# Altium schematic symbol library 常用器件.SCHLIB: 109 symbols
Pins are listed as number, name and electrical type; pins without a type are passive.

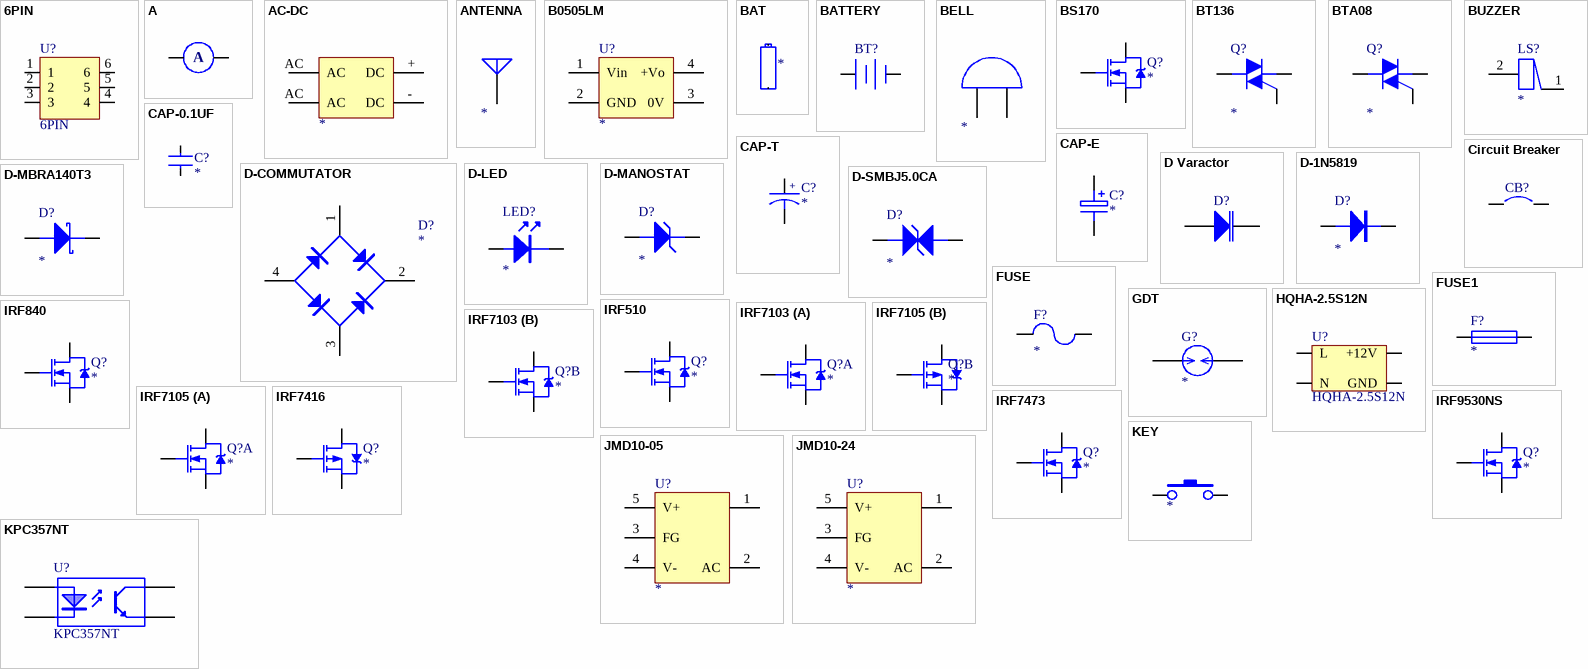
[diagram p0: symbols 6PIN to KPC357NT]

## 6PIN
designator U?
pins: 1, 2, 3, 4, 5, 6

## A
designator A  (value not drawn)
pins: 1, 2

## AC-DC
designator ?
pins: + DC, - DC, AC, AC

## ANTENNA
designator ?
pins: 1 A

## B0505LM
designator U?
DC/DC隔离电源（Mornsun）
footprint B0505LM
pins: 1 Vin, 2 GND, 3 0V, 4 +Vo

## BAT
designator ?
pins: 1, 2, DC hidden to DC

## BATTERY
designator BT?
Multicell Battery; Published: 24-Mar-1999; LatestRevisionDate: 17-Jul-2002; LatestRevisionNote: Re-released for DXP Platform.; PackageReference: BAT-2; Publisher: Altium Limited
footprint BAT-2 (Multicell Battery; 2 Leads)
pins: 1 +, 2 -

## BELL
designator ?
pins: 1 A, 2 B

## BS170
designator Q?
CQ-BS170
footprint TO-92
pins: 1 D, 2 G, 3 S

## BT136
designator Q?
CQ-BT136
footprint TO-220
pins: 1 T1, 2 T2, 3 G

## BTA08
designator Q?
CQ-BTA08
footprint TO-220
pins: 1 A1, 2 A2, 3 G

## BUZZER
designator LS?
footprint 24V-BUZZER
pins: 1 +, 2 -

## CAP-0.1UF
designator C?
SMD-CAP
footprint 0603C
footprint 0805C
footprint 1206C
pins: 1, 2

## CAP-E
designator C?
电解电容
footprint RB.2/.4
footprint RB.2/.5
footprint RB.1/.3
footprint RB.3/.6
pins: 1, 2

## CAP-T
designator C?
钽电容
footprint 6032C
footprint 7343C
footprint 3528C
footprint 3216C
pins: 1, 2
text: +

## Circuit Breaker
designator CB?
Circuit Breaker; Published: 24-Mar-1999; LatestRevisionDate: 17-Jul-2002; LatestRevisionNote: Re-released for DXP Platform.; PackageReference: SPST-2; Publisher: Altium Limited
footprint SPST-2 (Circuit Breaker; 2 Leads)
pins: 1, 2

## D Varactor
designator D?
Variable Capacitance Diode; Note: Pin 2 is not connected and not drawn.; Published: 8-Jun-2000; LatestRevisionDate: 17-Jul-2002; LatestRevisionNote: Re-released for DXP Platform.; DatasheetDocument: Jan-1998; PackageReference: SOT23A; Publisher: Altium Limited; Code_JEDEC: SOT23; ComponentLink1Description: Manufacturer Link; ComponentLink1URL: http://www.zetex.com/
footprint SOT23A (SOT-23; 3 Leads; Body 3.0 x 2.5 mm, inc. leads (LxW max))
simulation model BBY31 (Diode)
signal-integrity model D Varactor
pins: 1 K, 3 A

## D-1N5819
designator D?
Diode
footprint DO-41
footprint DO-35
pins: A 1, K 2

## D-COMMUTATOR
designator D?
commutator整流桥
pins: 1 AC, 2 V+, 3 AC, 4 V-

## D-LED
designator LED?
LED
footprint 0805D
footprint LED-3
footprint LED-5
pins: A 1, K 2

## D-MANOSTAT
designator D?
manostat diode
footprint DO-41
footprint DO-35
pins: A 1, K 2

## D-MBRA140T3
designator D?
MBRA140T3
footprint SMA
pins: A 1, K 2

## D-SMBJ5.0CA
designator D?
TVS
footprint SMB
footprint SMB-B
pins: A 1, K 2

## FUSE
designator F?
CR-1812-050A60V
footprint 1812R
pins: 1, 2

## FUSE1
designator F?
FUSE
pins: 1, 2

## GDT
designator G?
放电器
footprint GDT2
pins: 1, 2

## HQHA-2.5S12N
designator U?
Power
pins: 1 L, 2 N, 3 +12V, 4 GND

## IRF510
designator Q?
CQ-IRF510
footprint TO-220
pins: 1 G, 2 D, 3 S

## IRF840
designator Q?
CQ-IRF840
footprint TO-220
pins: 1 G, 2 D, 3 S

## IRF7103
designator Q?
CQ-IRF7103     SO-8N
footprint IRF7105
part A pins: D1, G1, S1
part B pins: D2, G2, S2

## IRF7105
designator Q?
CQ-IRF7105     SO-8N
footprint IRF7105
part A pins: D1, G1, S1
part B pins: D2, G2, S2

## IRF7416
designator Q?
CQ-IRF7416
footprint IRF7416
pins: D, G, S

## IRF7473
designator Q?
CQ-IRF7473
footprint IRF7473
pins: D, G, S

## IRF9530NS
designator Q?
CQ-IRF9530NS
footprint D2PAK
pins: 1 G, 2 D, 3 S

## JMD10-05
designator U?
CM-JMD10-05
pins: 1 AC, 2 AC, 3 FG, 4 V-, 5 V+

## JMD10-24
designator U?
CM-JMD10-24
pins: 1 AC, 2 AC, 3 FG, 4 V-, 5 V+

## KEY
designator ?
pins: 1, 2

## KPC357NT
designator U?
Published: 24-Mar-1999; LatestRevisionDate: 17-Jul-2002; LatestRevisionNote: Re-released for DXP Platform.; Publisher: Altium Limited
footprint DIP-4 (DIP; 4 Leads; Row Spacing 7.62 mm; Pitch 2.54 mm)
pins: 1 A, 2 K, 3 E, 4 C

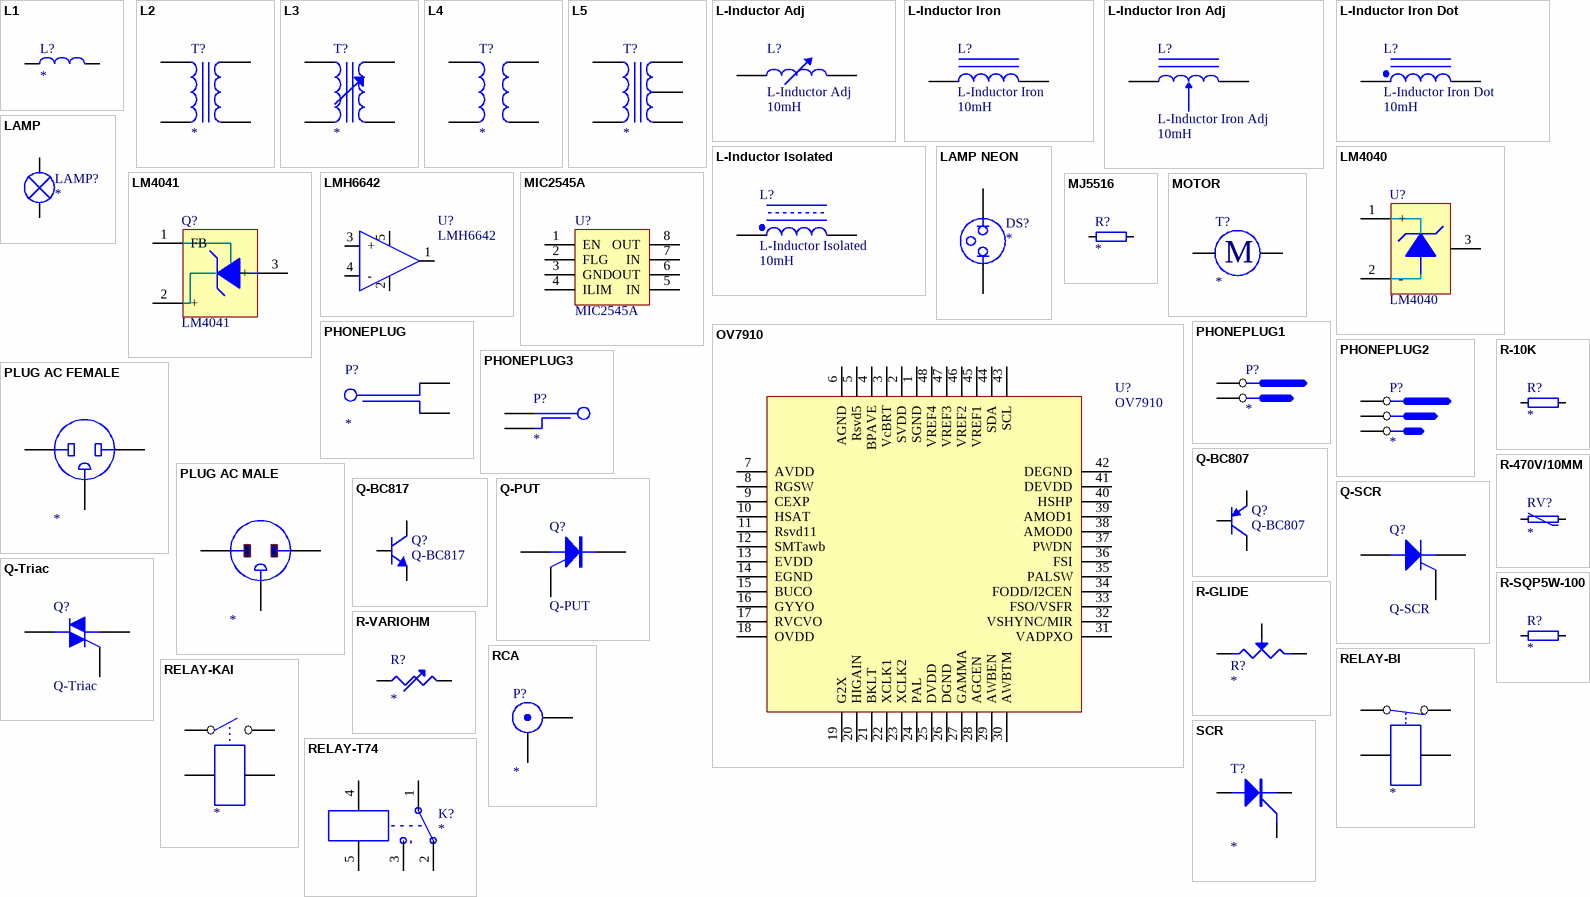
[diagram p1: symbols L1 to SCR]

## L1
designator L?
电感
footprint SLF10145
footprint SLF12565
pins: 1, 2

## L2
designator T?
变压器
pins: 1, 2, 3, 4

## L3
designator T?
变压器
pins: 1, 2, 3, 4

## L4
designator T?
变压器
pins: 1, 2, 3, 4

## L5
designator T?
变压器
pins: 1, 2, 3, 4, 5

## L-Inductor Adj
designator L?  value 10mH
Adjustable Inductor; Set Position: 0.5; Published: 24-Mar-1999; LatestRevisionDate: 17-Jul-2002; LatestRevisionNote: Re-released for DXP Platform.; PackageReference: AXIAL-0.8; Publisher: Altium Limited
footprint AXIAL-0.8 (Adjustable Inductor; 2 Leads)
simulation model INDUCTOR (Inductor)
signal-integrity model Inductor Adj
pins: 1, 2

## L-Inductor Iron
designator L?  value 10mH
Magnetic-Core Inductor; Published: 24-Mar-1999; LatestRevisionDate: 17-Jul-2002; LatestRevisionNote: Re-released for DXP Platform.; PackageReference: AXIAL-0.9; Publisher: Altium Limited
footprint AXIAL-0.9 (Magnetic-Core Inductor; 2 Leads)
simulation model INDUCTOR (Inductor)
signal-integrity model Inductor Iron
pins: 1, 2

## L-Inductor Iron Adj
designator L?  value 10mH
Adjustable Magnetic-Core Inductor; Set Position: 0.5; Published: 24-Mar-1999; LatestRevisionDate: 17-Jul-2002; LatestRevisionNote: Re-released for DXP Platform.; PackageReference: AXIAL-1.0; Publisher: Altium Limited
footprint AXIAL-1.0 (Adjustable Magnetic-Core Inductor; 2 Leads)
simulation model INDUCTOR (Inductor)
signal-integrity model Inductor Iron Adj
pins: 1, 2

## L-Inductor Iron Dot
designator L?  value 10mH
Magnetic-Core Inductor with Winding Polarity Marking; Published: 24-Mar-1999; LatestRevisionDate: 17-Jul-2002; LatestRevisionNote: Re-released for DXP Platform.; PackageReference: DIODE_SMC; Publisher: Altium Limited
footprint DIODE_SMC (Magnetic-Core Inductor with Winding Polarity Marking; 2 Leads)
signal-integrity model Inductor Iron Dot
pins: 1, 2

## L-Inductor Isolated
designator L?  value 10mH
Isolated Inductor; PackageDocument: 1988; Published: 24-Mar-1999; LatestRevisionDate: 17-Jul-2002; LatestRevisionNote: Re-released for DXP Platform.; PackageReference: 425; Publisher: Altium Limited
footprint 425 (SOD-123; 2 Leads; Body 2.7 x 1.6 mm, (LxW))
signal-integrity model Inductor Isolated
pins: 1, 2

## LAMP
designator LAMP?
pins: 1, 2

## LAMP NEON
designator DS?
pins: 1, 2

## LM4040
designator U?
Shunt  Voltage  Reference
pins: 1 +, 2 -, 3

## LM4041
designator Q?
Shunt  Voltage  Reference
footprint SOT-23 (Footprint not found)
pins: 1 FB, 2 +, 3 +

## LMH6642
designator U?
Amplifier IC
pins: 1 OUT, 2 V-, 3 +, 4 -, 5 V+

## MIC2545A
designator U?
IC; Set Position: 0.5; Published: 8-Jun-2000; LatestRevisionDate: 17-Jul-2002; LatestRevisionNote: Re-released for DXP Platform.; PackageReference: AXIAL-0.6; Publisher: Altium Limited
footprint AXIAL-0.6 (Variable Resistor; 2 Leads)
simulation model VRES (Variable Resistor)
signal-integrity model Res Adj
pins: 1 EN, 2 FLG, 3 GND, 4 ILIM, 5 IN, 6 OUT, 7 IN, 8 OUT

## MJ5516
designator R?
CR-MJ5516
footprint MJ5515
pins: 1, 2

## MOTOR
designator T?
pins: 1, 2
text: M

## OV7910
designator U?
Video  IC
pins: 1 SGND, 2 SVDD, 3 VcBRT, 4 BPAVE, 5 Rsvd5, 6 AGND, 7 AVDD, 8 RGSW, 9 CEXP, 10 HSAT, 11 Rsvd11, 12 SMTawb, 13 EVDD, 14 EGND, 15 BUCO, 16 GYYO, 17 RVCVO, 18 OVDD, 19 G2X, 20 HIGAIN, 21 BKLT, 22 XCLK1, 23 XCLK2, 24 PAL, 25 DVDD, 26 DGND, 27 GAMMA, 28 AGCEN, 29 AWBEN, 30 AWBTM, 31 VADPXO, 32 VSHYNC/MIR, 33 FSO/VSFR, 34 FODD/I2CEN, 35 PALSW, 36 FSI, 37 PWDN, 38 AMOD0, 39 AMOD1, 40 HSHP, 41 DEVDD, 42 DEGND, 43 SCL, 44 SDA, 45 VREF1, 46 VREF2, 47 VREF3, 48 VREF4

## PHONEPLUG
designator P?
pins: 1 A, 2 B

## PHONEPLUG1
designator P?
pins: 1 A, 2 B

## PHONEPLUG2
designator P?
pins: 1 A, 2 B, 3 C

## PHONEPLUG3
designator P?
pins: 1 A, 2 B

## PLUG AC FEMALE
designator ?
pins: 1 A, 2 B, 3 GND

## PLUG AC MALE
designator ?
pins: 1 A, 2 B, 3 GND

## Q-BC807
designator Q?
PNP General Purpose Amplifier; Published: 8-Jun-2000; LatestRevisionDate: 15-Jan-2003; LatestRevisionNote: PCB Footprint 'BCY-W3/D4.7' replaced; DatasheetDocument: 1997; PackageDocument: Sep-1998; PackageReference: TO-92A; Publisher: Altium Limited; Code_JEDEC: TO-92A; ComponentLink1Description: Manufacturer Link; ComponentLink1URL: http://www.fairchildsemi.com/; ComponentLink2Description: Datasheet; ComponentLink2URL: http://www.fairchildsemi.com/ds/2N%2F2N3906.pdf
footprint SOT-23Q
simulation model 2N3906 (PNP)
signal-integrity model 2N3906
pins: B, C, E

## Q-BC817
designator Q?
NPN General Purpose Amplifier; Published: 8-Jun-2000; LatestRevisionDate: 15-Jan-2003; LatestRevisionNote: PCB Footprint 'BCY-W3/D4.7' replaced; DatasheetDocument: 1997; PackageDocument: Sep-1998; PackageReference: TO-92A; Publisher: Altium Limited; Code_JEDEC: TO-92A; ComponentLink1Description: Manufacturer Link; ComponentLink1URL: http://www.fairchildsemi.com/; ComponentLink2Description: Datasheet; ComponentLink2URL: http://www.fairchildsemi.com/ds/2N%2F2N3904.pdf
footprint TO-92A (TO, Flat Index; 3 In-Line, Axial Leads; Body Dia. 4.5mm; Leads 0.51 x 0.48 mm (max))
simulation model 2N3904 (NPN)
signal-integrity model 2N3904
pins: 1 E, 2 B, 3 C

## Q-PUT
designator Q?
Programmable Unijunction Transistor; Published: 8-Jun-2000; LatestRevisionDate: 17-Jul-2002; LatestRevisionNote: Re-released for DXP Platform.; PackageReference: TO-52; Publisher: Altium Limited
footprint TO-52 (Can; 3 Leads; Pin Circle Dia. 2.54 mm)
simulation model PUT (Spice Subcircuit)
pins: 1 A, 2 G, 3 K

## Q-SCR
designator Q?
Silicon Controlled Rectifier; Published: 8-Jun-2000; LatestRevisionDate: 17-Jul-2002; LatestRevisionNote: Re-released for DXP Platform.; PackageReference: TO-220-AB; Publisher: Altium Limited; Code_JEDEC: TO-220-AB
footprint TO-220-AB (TO, Thru-Hole, Vertical, Heatsink Mounted; 3 In-Line Leads; Pitch 2.54 mm)
simulation model SCR (Spice Subcircuit)
pins: 1 A, 2 G, 3 K

## Q-Triac
designator Q?
Silicon Bidirectional Triode Thyristor; Note: Pin 2 is electrically connected to Pin 4 (TAB); Published: 29-Sep-2000; LatestRevisionDate: 17-Jul-2002; LatestRevisionNote: Re-released for DXP Platform.; DatasheetDocument: 1999; PackageReference: 369-03; Publisher: Altium Limited; Code_JEDEC: TO-251-AA; ComponentLink1Description: Manufacturer Link; ComponentLink1URL: http://www.motorola.com/
footprint 369-03 (TO, Thru-Hole, Vertical, Heatsink Mounted; 3 In-Line Leads; Pitch 2.28 mm)
simulation model MAC15A8 (Spice Subcircuit)
pins: 1 M1, 2 M2, 3 G

## R-10K
designator R?
resistor
footprint 0805R
footprint 0603R
footprint 1206R
pins: 1, 2

## R-470V/10MM
designator RV?
C-471KD10
footprint 470V/10MM
pins: 1, 2

## R-GLIDE
designator R?
pins: 1, 2, 3 W

## R-SQP5W-100
designator R?
CR-SQP5W-101J
footprint R-SQP5W
pins: 1, 2

## R-VARIOHM
designator R?
pins: 1, 2

## RCA
designator P?
RCA Connector
pins: 1 X, 2 Y

## RELAY-BI
designator ?
pins: 1, 2, 3, 4

## RELAY-KAI
designator ?
pins: 1, 2, 3, 4

## RELAY-T74
designator K?
CN-RELAY-T74
footprint RELAY-T74
pins: 1, 2, 3, 4, 5

## SCR
designator T?
SCR
pins: 1 A, 2 K, 3 G

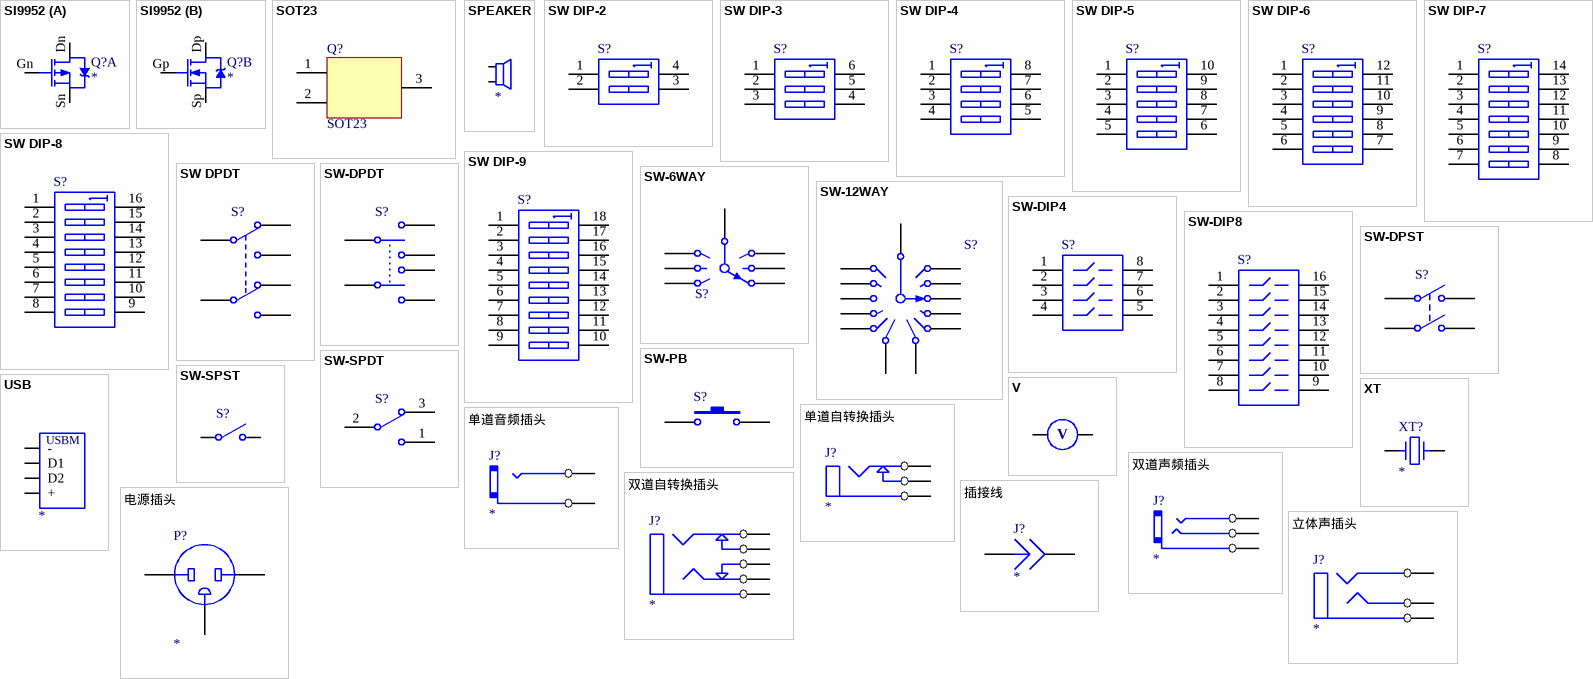
[diagram p2: symbols SI9952 to 立体声插头]

## SI9952
designator Q?
CQ-SI9952
footprint SI9952
part A pins: Dn, Gn, Sn
part B pins: Dp, Gp, Sp

## SOT23
designator Q?
pins: 1, 2, 3

## SPEAKER
designator ?
pins: 1, 2

## SW DIP-2
designator S?
DIP Switch, 2 Position, SPST; Published: 24-Mar-1999; LatestRevisionDate: 17-Jul-2002; LatestRevisionNote: Re-released for DXP Platform.; PackageReference: DIP-4; Publisher: Altium Limited
footprint DIP-4 (DIP; 4 Leads; Row Spacing 7.62 mm; Pitch 2.54 mm)
simulation model dpsw2 (Spice Subcircuit)
pins: 1 A1, 2 A2, 3 B2, 4 B1

## SW DIP-3
designator S?
DIP Switch, 3 Position, SPST; Published: 24-Mar-1999; LatestRevisionDate: 17-Jul-2002; LatestRevisionNote: Re-released for DXP Platform.; PackageReference: DIP-6; Publisher: Altium Limited; Code_JEDEC: MO-001-AM
footprint DIP-6 (DIP; 6 Leads; Row Spacing 7.62 mm; Pitch 2.54 mm)
simulation model dpsw3 (Spice Subcircuit)
pins: 1 A1, 2 A2, 3 A3, 4 B3, 5 B2, 6 B1

## SW DIP-4
designator S?
DIP Switch, 4 Position, SPST; Published: 24-Mar-1999; LatestRevisionDate: 17-Jul-2002; LatestRevisionNote: Re-released for DXP Platform.; PackageReference: SO8; Publisher: Altium Limited; Code_JEDEC: MS-012-AA; Code_IPC: SO8
footprint SO8 (Small Outline; 8 Leads; Body Width 3.9 mm; Pitch 1.27 mm)
simulation model dpsw4 (Spice Subcircuit)
pins: 1 A1, 2 A2, 3 A3, 4 A4, 5 B4, 6 B3, 7 B2, 8 B1

## SW DIP-5
designator S?
DIP Switch, 5 Position, SPST; Published: 24-Mar-1999; LatestRevisionDate: 17-Jul-2002; LatestRevisionNote: Re-released for DXP Platform.; PackageReference: N10A; Publisher: Altium Limited
footprint N10A (DIP; 10 Leads; Row Spacing 7.62 mm; Pitch 2.54 mm)
simulation model dpsw5 (Spice Subcircuit)
pins: 1 A1, 2 A2, 3 A3, 4 A4, 5 A5, 6 B5, 7 B4, 8 B3, 9 B2, 10 B1

## SW DIP-6
designator S?
DIP Switch, 6 Position, SPST; Published: 24-Mar-1999; LatestRevisionDate: 17-Jul-2002; LatestRevisionNote: Re-released for DXP Platform.; PackageReference: DIP-12/SW; Publisher: Altium Limited
footprint DIP-12/SW (DIP Switch; 12 Leads)
simulation model dpsw6 (Spice Subcircuit)
pins: 1 A1, 2 A2, 3 A3, 4 A4, 5 A5, 6 A6, 7 B6, 8 B5, 9 B4, 10 B3, 11 B2, 12 B1

## SW DIP-7
designator S?
DIP Switch, 7 Position, SPST; Published: 24-Mar-1999; LatestRevisionDate: 17-Jul-2002; LatestRevisionNote: Re-released for DXP Platform.; PackageReference: DIP-14; Publisher: Altium Limited; Code_JEDEC: MO-001-AF
footprint DIP-14 (DIP; 14 Leads; Row Spacing 7.62 mm; Pitch 2.54 mm)
simulation model dpsw7 (Spice Subcircuit)
pins: 1 A1, 2 A2, 3 A3, 4 A4, 5 A5, 6 A6, 7 A7, 8 B7, 9 B6, 10 B5, 11 B4, 12 B3, 13 B2, 14 B1

## SW DIP-8
designator S?
DIP Switch, 8 Position, SPST; Published: 24-Mar-1999; LatestRevisionDate: 17-Jul-2002; LatestRevisionNote: Re-released for DXP Platform.; PackageReference: DIP_SW_8WAY_SMD; Publisher: Altium Limited
footprint DIP_SW_8WAY_SMD (DIP Switch; 16 Leads)
simulation model dpsw8 (Spice Subcircuit)
pins: 1 A1, 2 A2, 3 A3, 4 A4, 5 A5, 6 A6, 7 A7, 8 A8, 9 B8, 10 B7, 11 B6, 12 B5, 13 B4, 14 B3, 15 B2, 16 B1

## SW DIP-9
designator S?
DIP Switch, 9 Position, SPST; Published: 24-Mar-1999; LatestRevisionDate: 17-Jul-2002; LatestRevisionNote: Re-released for DXP Platform.; PackageReference: DIP-18; Publisher: Altium Limited; Code_JEDEC: MO-036-AE
footprint DIP-18 (DIP; 18 Leads; Row Spacing 7.62 mm; Pitch 2.54 mm)
simulation model dpsw9 (Spice Subcircuit)
pins: 1 A1, 2 A2, 3 A3, 4 A4, 5 A5, 6 A6, 7 A7, 8 A8, 9 A9, 10 B9, 11 B8, 12 B7, 13 B6, 14 B5, 15 B4, 16 B3, 17 B2, 18 B1

## SW DPDT
designator S?
Switch; Published: 24-Mar-1999; LatestRevisionDate: 17-Jul-2002; LatestRevisionNote: Re-released for DXP Platform.; PackageReference: SOT23-6; Publisher: Altium Limited
footprint SOT23-6 (SOT-23/SC-74A; 5 Leads; Body 3.1 x 3 mm, inc. leads (LxW max))
pins: 1 COMMON1, 2 NC1, 3 NO1, 4 NC2, 5 COMMON2, 6 NO2

## SW-6WAY
designator S?
6 Way Switch; Published: 24-Mar-1999; LatestRevisionDate: 17-Jul-2002; LatestRevisionNote: Re-released for DXP Platform.; PackageReference: SW-7; Publisher: Altium Limited
footprint SW-7 (6 Way Switch; 7 Leads)
pins: 1, 2, 3, 4, 5, 6, 7

## SW-12WAY
designator S?
12 Way Switch; Published: 24-Mar-1999; LatestRevisionDate: 17-Jul-2002; LatestRevisionNote: Re-released for DXP Platform.; PackageReference: DIP-13(14); Publisher: Altium Limited
footprint DIP-13(14) (DIP; 14 Leads (1 Absent); Row Spacing 7.62 mm; Pitch 2.54 mm)
pins: 1, 2, 3, 5, 6, 7, 8, 9, 10, 11, 12, 13, 14

## SW-DIP4
designator S?
DIP Switch; Published: 24-Mar-1999; LatestRevisionDate: 17-Jul-2002; LatestRevisionNote: Re-released for DXP Platform.; PackageReference: DIP-8; Publisher: Altium Limited
footprint DIP-8 (DIP; 8 Leads; Row Spacing 7.62 mm; Pitch 2.54 mm)
simulation model dpsw4 (Spice Subcircuit)
pins: 1, 2, 3, 4, 5, 6, 7, 8

## SW-DIP8
designator S?
4009 Series DIP Switch, Raised actuator; Published: 24-Mar-1999; LatestRevisionDate: 17-Dec-2003; LatestRevisionNote: PCB Footprint replaced.; PackageReference: DIP-16-KEY; Publisher: Altium Limited; ComponentLink1Description: Manufacturer Link; ComponentLink1URL: http://www.oupiin.com/prodindx.html#Headers
footprint DIP-16-KEY (DIP; 16 Leads; Row Spacing 7.62 mm; Pitch 2.54 mm)
simulation model dpsw8 (Spice Subcircuit)
pins: 1, 2, 3, 4, 5, 6, 7, 8, 9, 10, 11, 12, 13, 14, 15, 16

## SW-DPDT
designator S?
Double-Pole, Double-Throw Switch; Published: 24-Mar-1999; LatestRevisionDate: 17-Jul-2002; LatestRevisionNote: Re-released for DXP Platform.; PackageReference: DPDT-6; Publisher: Altium Limited
footprint DPDT-6 (Double-Pole, Double-Throw Switch; 6 Leads)
pins: 1, 2, 3, 4, 5, 6

## SW-DPST
designator S?
Double-Pole, Single-Throw Switch; Published: 24-Mar-1999; LatestRevisionDate: 17-Jul-2002; LatestRevisionNote: Re-released for DXP Platform.; PackageReference: DPST-4; Publisher: Altium Limited
footprint DPST-4 (Double-Pole, Single-Throw Switch; 4 Leads)
pins: 1 COMMON1, 2 NO1, 3 COMMON2, 4 NO2

## SW-PB
designator S?
Switch; Published: 24-Mar-1999; LatestRevisionDate: 17-Jul-2002; LatestRevisionNote: Re-released for DXP Platform.; PackageReference: SPST-2; Publisher: Altium Limited
footprint SPST-2 (Switch; 2 Leads)
pins: 1, 2

## SW-SPDT
designator S?
SPDT Subminiature Toggle Switch, Right Angle Mounting, Vertical Actuation; Published: 24-Mar-1999; LatestRevisionDate: 17-Dec-2003; LatestRevisionNote: Schematic revised, PCB Footprint replaced.; DatasheetDocument: 05-Dec-2000; PackageReference: TL36WW15050; Publisher: Altium Limited; ComponentLink1Description: Manufacturer Link; ComponentLink1URL: http://www.apem.com
footprint TL36WW15050 (SPDT Subminiature Toggle Switch, Right Angle Mounting, Vertical Actuation)
pins: 1, 2, 3

## SW-SPST
designator S?
Single-Pole, Single-Throw Switch; Published: 24-Mar-1999; LatestRevisionDate: 17-Jul-2002; LatestRevisionNote: Re-released for DXP Platform.; PackageReference: SPST-2; Publisher: Altium Limited
footprint SPST-2 (Single-Pole, Single-Throw Switch; 2 Leads)
pins: 1 COMMON, 2 NO

## USB
designator ?
pins: +, -, D1, D2
text: USBM

## V
designator V  (value not drawn)
pins: 1, 2

## XT
designator XT?
晶振
footprint HC-49S
pins: 1, 2

## 单道自转换插头
designator J?
pins: 1 A, 2 B, 3 C

## 单道音频插头
designator J?
pins: 1 A, 2 B

## 双道声频插头
designator J?
pins: 1 A, 2 B, 3 C

## 双道自转换插头
designator J?
pins: 1 A, 2 B, 3 C, 4 D, 5 E

## 插接线
designator J?
pins: 1, 2

## 电源插头
designator P?
pins: 1 A, 2 B, 3 GND

## 立体声插头
designator J?
pins: 1 A, 2 B, 3 C